# Altium footprint library Imperial_SMD.PcbLib: 79 footprints (part 4 of 5)
Each footprint in its own frame and in the unit in brackets; x right, y up, seen from the top. Pads: shape width x height; smd on the part's side, far side on the other; paste and mask are expansions set on the pad; w line width, h text height; cw(c..) or ccw(c..) is an arc to the next point about the centre after c.
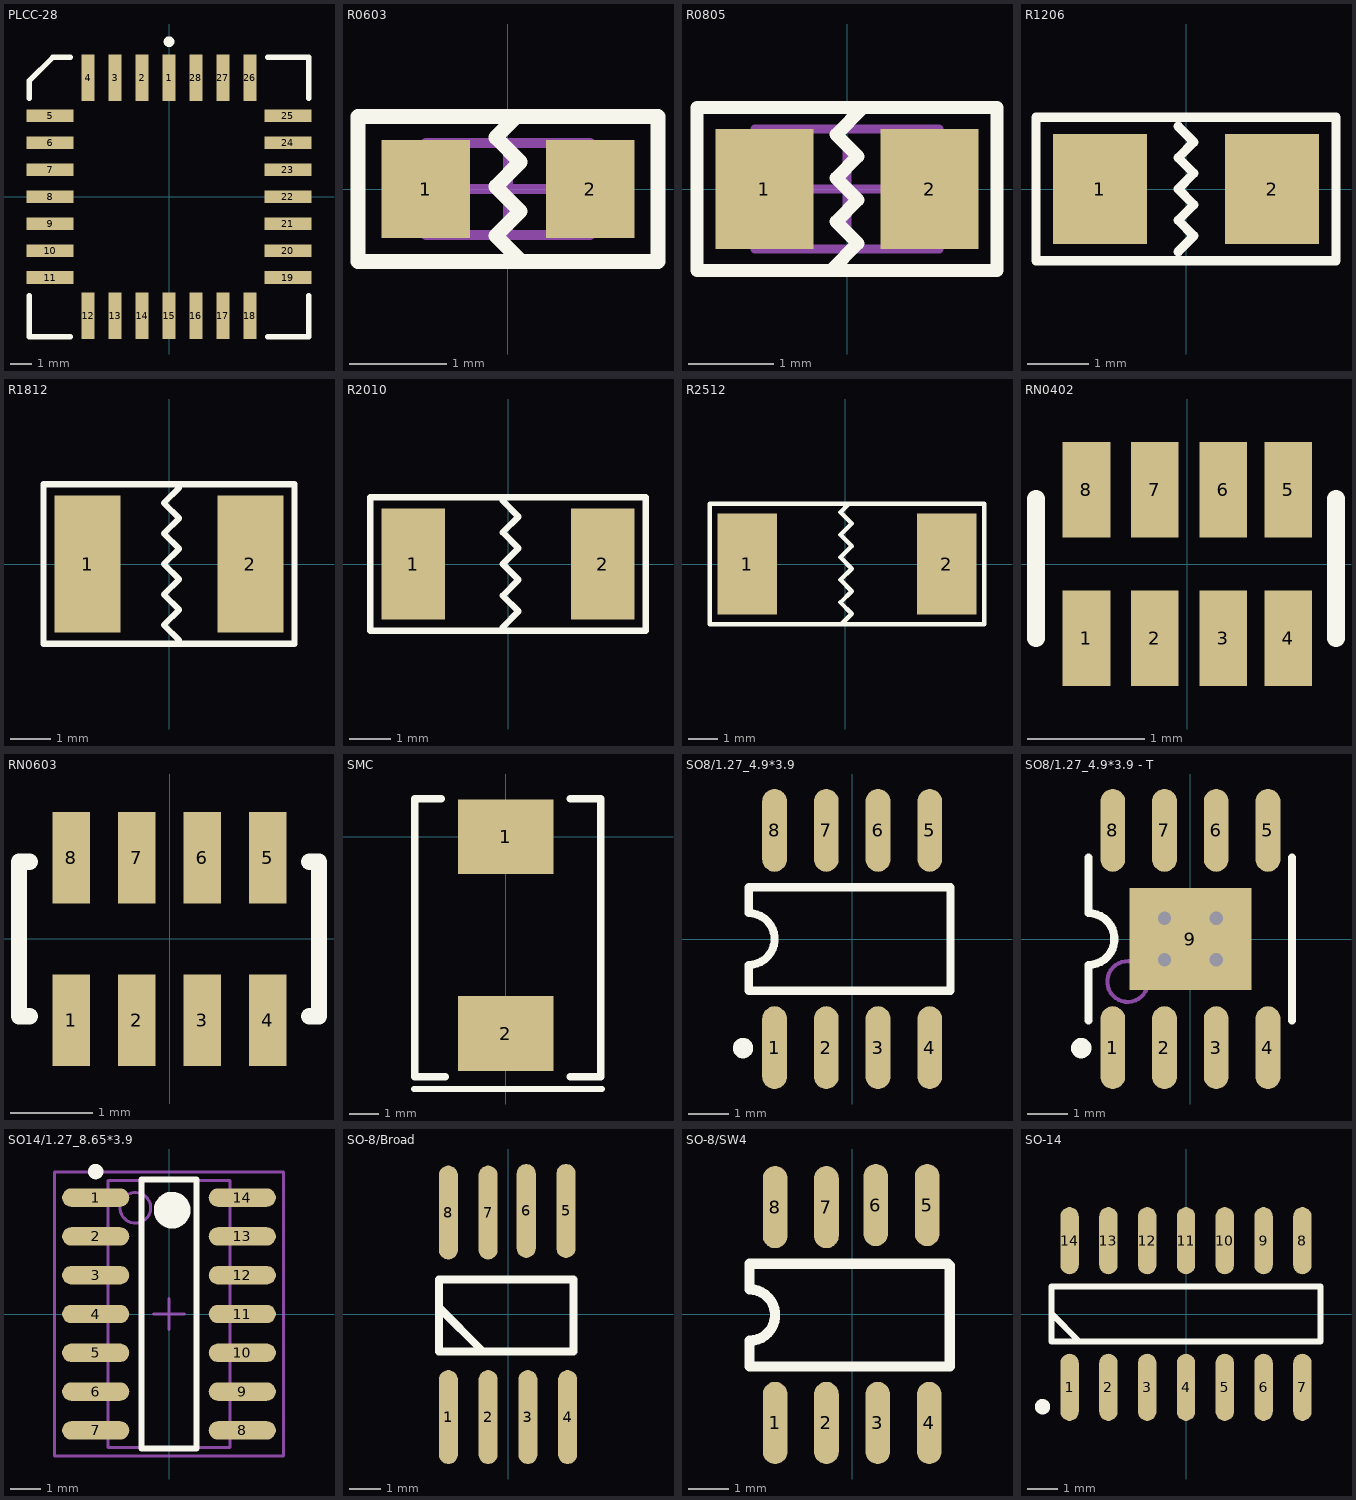
[diagram p3: the footprints below, top view; thin cyan lines are the x and y axes]

## PLCC-28 [mm] "PLCC; 28 Leads; Body 11.5 x 11.5 mm"
height 4.57
pads (28):
  rect 0.6x2.2 smd: 1(0,5.6) 2(-1.27,5.6) 3(-2.54,5.6) 4(-3.81,5.6) 12(-3.81,-5.6) 13(-2.54,-5.6) 14(-1.27,-5.6) 15(0,-5.6) 16(1.27,-5.6) 17(2.54,-5.6) 18(3.81,-5.6) 26(3.81,5.6) 27(2.54,5.6) 28(1.27,5.6)
  rect 2.2x0.6 smd: 5(-5.6,3.81) 6(-5.6,2.54) 7(-5.6,1.27) 8(-5.6,0) 9(-5.6,-1.27) 10(-5.6,-2.54) 11(-5.6,-3.81) 19(5.6,-3.81) 20(5.6,-2.54) 21(5.6,-1.27) 22(5.6,0) 23(5.6,1.27) 24(5.6,2.54) 25(5.6,3.81)
Top Overlay:
  circle w0.25: c0,7.3 r0.125
  lines w0.25: -6.575,-4.658 -6.575,-6.588 -4.645,-6.588 ; -6.575,4.632 -6.575,5.463 -5.475,6.563 -4.645,6.563 ; 4.645,-6.588 6.575,-6.588 6.575,-4.658 ; 4.645,6.563 6.575,6.563 6.575,4.632

## R0603 [mil] "Chip Resistor, Body 60x30mil (1.6x0.8mm)"
height 23.62
pads (2):
  rect 36x40 smd: 1(-33.46,0) 2(33.5,0)
Top Overlay:
  lines w6: 3.54,29.54 -5,21 5,11 -5,1 5,-9 -5,-19 5,-29 ; -61.02,-29.53 -61.02,29.53 61.02,29.53 61.02,-29.53 -61.02,-29.53
Mechanical 13:
  lines w3.94: -33.46,-18.7 -33.46,18.7 33.46,18.7 33.46,-18.7 -33.46,-18.7
Mechanical 15:
  lines w3.94: -18.7,0 18.7,0 ; 0,-18.7 0,18.7 ; -61.02,-29.53 -61.02,29.53 61.02,29.53 61.02,-29.53 -61.02,-29.53
3D body "User Library-RESC1608X05N.STEP": height 17.76, standoff 0, extent -30.51,-15 30.51,18.46

## R0805 [mil] "Chip Resistor; Body 80x50mil (2.0 x 1.3 mm)"
height 25.59
pads (2):
  rect 45x55 smd: 1(-38,0) 2(38,0)
Top Overlay:
  lines w6: -7.24,-37.24 5,-25 -5,-15 5,-5 -5,5 5,15 -5,25 7.24,37.24 ; -68.9,-37.4 68.9,-37.4 68.9,37.4 -68.9,37.4 -68.9,-37.4
Mechanical 13:
  lines w3.94: -42.32,-27.56 42.32,-27.56 42.32,27.56 -42.32,27.56 -42.32,-27.56
Mechanical 15:
  lines w3.94: -19.69,0 19.68,0 ; 0,-19.68 0,19.69 ; -68.9,-37.4 68.9,-37.4 68.9,37.4 -68.9,37.4 -68.9,-37.4
3D body "User Library-RESC2012X05N.STEP": height 17.76, standoff 0, extent -38,-24.61 40.74,24.61

## R1206 [mil] "Chip Resistor; Body 120x60mil (3.2 x 1.6 mm )"
height 27.95
pads (2):
  rect 60x70 smd: 1(-55,0) 2(55,0)
Top Overlay:
  lines w6: -5,-40 5,-30 -5,-20 5,-10 -5,0 5,10 -5,20 5,30 -5,40 ; -95.87,-45.91 95.87,-45.91 95.87,45.91 -95.87,45.91 -95.87,-45.91
3D body "User Library-res1206-1.STEP": height 21.65, standoff 0, extent -62.99,-31.5 62.99,31.5

## R1812 [mil] "Chip Resistor, Body 180x120mil (4.5x3.2mm)"
height 0.71
pads (2):
  rect 65x135 smd: 1(-80,0) 2(80,0)
Top Overlay:
  lines w6: 10,-75 -5,-60 10,-45 -5,-30 10,-15 -5,0 10,15 -5,30 10,45 -5,60 10,75 ; -123.39,-78.39 123.39,-78.39 123.39,78.39 -123.39,78.39 -123.39,-78.39
3D body "SW3dPS-1812 SMD Resistor.STEP": height 63.07, standoff 0, extent -86.24,-58.64 90.93,67.34

## R2010 [mil] "Chip Resistor, Body 200x100mil (5.0x2.5mm)"
height 0.71
pads (2):
  rect 60x105 smd: 1(-90,0) 2(90,0)
Top Overlay:
  lines w6: -5,-60 10,-45 -5,-30 10,-15 -5,0 10,15 -5,30 10,45 -5,60 ; -131,-63.5 131,-63.5 131,63.5 -131,63.5 -131,-63.5
3D body "User Library-res2010.STEP": height 24.44, standoff 0, extent -119.11,-54.15 117.11,52.15

## R2512 [mm]
pads (2):
  rect 2x3.4 smd: 1(-3.302,0) 2(3.429,0)
Top Overlay:
  lines w0.152: -0.127,-2.032 0.225,-1.68 -0.156,-1.299 0.225,-0.918 -0.156,-0.537 0.225,-0.156 -0.156,0.225 0.225,0.606 -0.156,0.987 0.225,1.368 -0.156,1.749 0.127,2.032 ; -4.572,-2.032 4.699,-2.032 4.699,2.032 -4.572,2.032 -4.572,-2.032
3D body "User Library-RESC6432X06.STEP": height 0.6, standoff 0, extent -3.073,-1.6 3.327,1.6

## RN0402 [mil]
pads (8):
  rect 16x32 smd: 1(-34,-25) 2(-11,-25) 3(12,-25) 4(34,-25) 5(34,25) 6(12,25) 7(-11,25) 8(-34,24.99)
Top Overlay:
  lines w5.91: -51,-25 -51,22 ; 50,-25 50,22

## RN0603 [mil] "阻排0603x4"
height 78.74
pads (8):
  rect 18x44 smd: 1(-47.24,-39) 2(-15.75,-39) 3(15.75,-39) 4(47.24,-39) 5(47.24,39) 6(15.75,39) 7(-15.75,39) 8(-47.24,39)
Top Overlay:
  lines w7.87: -67,-37 -72.24,-37 -72.24,37 -67,37 ; 67,-37 71.76,-37 71.76,37 67,37
3D body "User Library-Array-1206-4Way-Var2-1.STEP": height 19.68, standoff 0, extent -63.14,-31.87 62.84,31.13

## SMC [mm] "DO-214AB (SMC) diode package"
pads (2):
  rect 3.2x2.5 smd: 1(0,0) 2(0,-6.579)
Top Overlay:
  lines w0.2: -3.073,-8.433 3.226,-8.433
  lines w0.254: -2.159,1.27 -3.048,1.27 -3.048,-8.026 -2.032,-8.026 ; 2.159,-8.026 3.175,-8.026 3.175,1.27 2.159,1.27
3D body "User Library-DO-214AB-SMC.STEP": height 2.4, standoff -0.05, extent -2.874,-7.253 3.026,0.547

## SO8/1.27_4.9*3.9 [mil] "SOIC, 8-Leads, Body 4.9x3.9mm, Pitch 1.27mm,"
height 68.9
pads (8):
  oval 24x80 smd: 1(-75,-105) 2(-25,-105) 3(25,-105) 4(75,-105) 5(75,105) 6(25,105) 7(-25,105) 8(-75,105)
Top Overlay:
  circle w9.84: c-105.49,-105.54 r4.92
  lines w7.87: -100,-50 -100,-25 ccw(c-100,0) -100,25 -100,50 95,50 95,-50 -100,-50
3D body "User Library-so8-3.STEP": height 66.93, standoff 0, extent -97,-118.11 95.91,118.11

## SO8/1.27_4.9*3.9 - T [mil] "SOIC PowerPAD, 8-Leads, Body 4.9x3.9mm, Pitch 1.27mm,"
height 66.14
pads (9):
  oval 24x80 smd: 1(-75,-105) 2(-25,-105) 3(25,-105) 4(75,-105) 5(75,105) 6(25,105) 7(-25,105) 8(-75,105)
  rect 118.11x98.43 smd: 9(0,0)
via -25,20 diameter 25.98 hole 12.99
via -25,-20 diameter 25.98 hole 12.99
via 25,-20 diameter 25.98 hole 12.99
via 25,20 diameter 25.98 hole 12.99
Top Overlay:
  circle w9.84: c-105.49,-105.54 r4.92
  lines w7.87: -98.43,-78.74 -98.43,-25 ccw(c-98.43,0) -98.43,25 -98.43,78.74 ; 98.43,-78.74 98.43,78.74
Mechanical 13:
  circle w3.94: c-60.63,-41.14 r19.68
Mechanical 15:
  lines w3.94: -19.68,0 19.68,0 ; 0,-19.68 0,19.69
3D body "User Library-so8-3.STEP": height 66.93, standoff 0, extent -97,-118.11 95.91,118.11

## SO14/1.27_8.65*3.9 [mm] "SOIC, 14-Leads, Body 8.7x3.9mm, Pitch 1.27mm, IPC Medium Density"
height 1.75
pads (14):
  oval 2.2x0.6 smd: 1(-2.4,3.81) 2(-2.4,2.54) 3(-2.4,1.27) 4(-2.4,0) 5(-2.4,-1.27) 6(-2.4,-2.54) 7(-2.4,-3.81) 8(2.4,-3.81) 9(2.4,-2.54) 10(2.4,-1.27) 11(2.4,0) 12(2.4,1.27) 13(2.4,2.54) 14(2.4,3.81)
Top Overlay:
  circle w0.6: c0.1,3.4 r0.3
  circle w0.25: c-2.4,4.66 r0.125
  lines w0.2: -0.9,-4.4 0.9,-4.4 0.9,4.4 -0.9,4.4 -0.9,-4.4
Mechanical 13:
  circle w0.1: c-1.1,3.475 r0.5
  lines w0.1: -2,-4.375 2,-4.375 2,4.375 -2,4.375 -2,-4.375
Mechanical 15:
  lines w0.1: -0.5,0 0.5,0 ; 0,-0.5 0,0.5 ; -3.75,-4.65 3.75,-4.65 3.75,4.65 -3.75,4.65 -3.75,-4.65
3D body: height 1.75, standoff 0, extent -2,-4.375 2,4.375

## SO-8/Broad [mil] "SO8宽型窄型通用"
height 59.06
pads (8):
  oval 24x118.11 smd: 1(-75,-129.62) 2(-25,-129.62) 3(25,-129.62) 4(75,-129.62) 5(73,129.62) 6(23,129.62) 7(-25,127.62) 8(-75,127.62)
Top Overlay:
  lines w10: -86.81,8.17 -31.69,-46.94 -23.82,-46.94 ; -86.81,-46.94 -86.81,43.61 82.48,43.61 82.48,-46.94 -86.81,-46.94
3D body: height 78.74, standoff 15.75, extent -118.31,-102.06 110.04,98.72

## SO-8/SW4 [mil] "4位表贴拨码开关"
height 59.06
pads (8):
  oval 24x80 smd: 1(-75,-106) 2(-25,-106) 3(25,-106) 4(75,-106) 5(73,106) 6(23,106) 7(-25,104) 8(-75,104)
Top Overlay:
  lines w10: 93,49 -100,49 -100,24 cw(c-100,-1) -100,-26 -100,-51 95,-51 95,47
3D body: height 40, standoff 5, extent 41.25,-32.5 72,38.5
3D body: height 40, standoff 5, extent 1.25,-32.5 32,38.5
3D body: height 40, standoff 5, extent -35.75,-32.5 -5,38.5
3D body: height 40, standoff 5, extent -73.75,-32.5 -43,38.5
3D body: height 66, standoff 5, extent 40.62,-42 71.38,-1.77
3D body: height 66, standoff 5, extent 1.62,-42 32.38,-1.77
3D body: height 66, standoff 5, extent -35.75,-42.11 -5,-1.89
3D body: height 20, standoff 5, extent -108,-86 110,90
3D body: height 60, standoff 5, extent -108,-86 -83.31,91
3D body: height 60, standoff 5, extent 79.63,-87 110,91
3D body: height 60, standoff 5, extent -87,38 84,91
3D body: height 60, standoff 5, extent -84.75,-88 84,-45
3D body: height 66, standoff 5, extent -72.38,-42 -41.62,-1.77

## SO-14 [mm] "SOIC, 14-Leads, Body 8.6x3.9mm, Pitch 1.27mm, IPC Medium Density"
height 1.75
pads (14):
  oval 0.6x2.2 smd: 1(-3.81,-2.4) 2(-2.54,-2.4) 3(-1.27,-2.4) 4(0,-2.4) 5(1.27,-2.4) 6(2.54,-2.4) 7(3.81,-2.4) 8(3.81,2.4) 9(2.54,2.4) 10(1.27,2.4) 11(0,2.4) 12(-1.27,2.4) 13(-2.54,2.4) 14(-3.81,2.4)
Top Overlay:
  circle w0.25: c-4.697,-3.035 r0.125
  lines w0.2: -4.4,0.013 -3.487,-0.9 ; -4.4,-0.9 4.4,-0.9 4.4,0.9 -4.4,0.9 -4.4,-0.9
3D body: height 2, standoff 0.6, extent -4.556,-1.654 4.572,1.746